# Altium footprint library Electro_Mechanical.PcbLib: 27 footprints (part 1 of 2)
Each footprint in its own frame and in the unit in brackets; x right, y up, seen from the top. Pads: shape width x height; smd on the part's side, far side on the other; paste and mask are expansions set on the pad; w line width, h text height; cw(c..) or ccw(c..) is an arc to the next point about the centre after c.
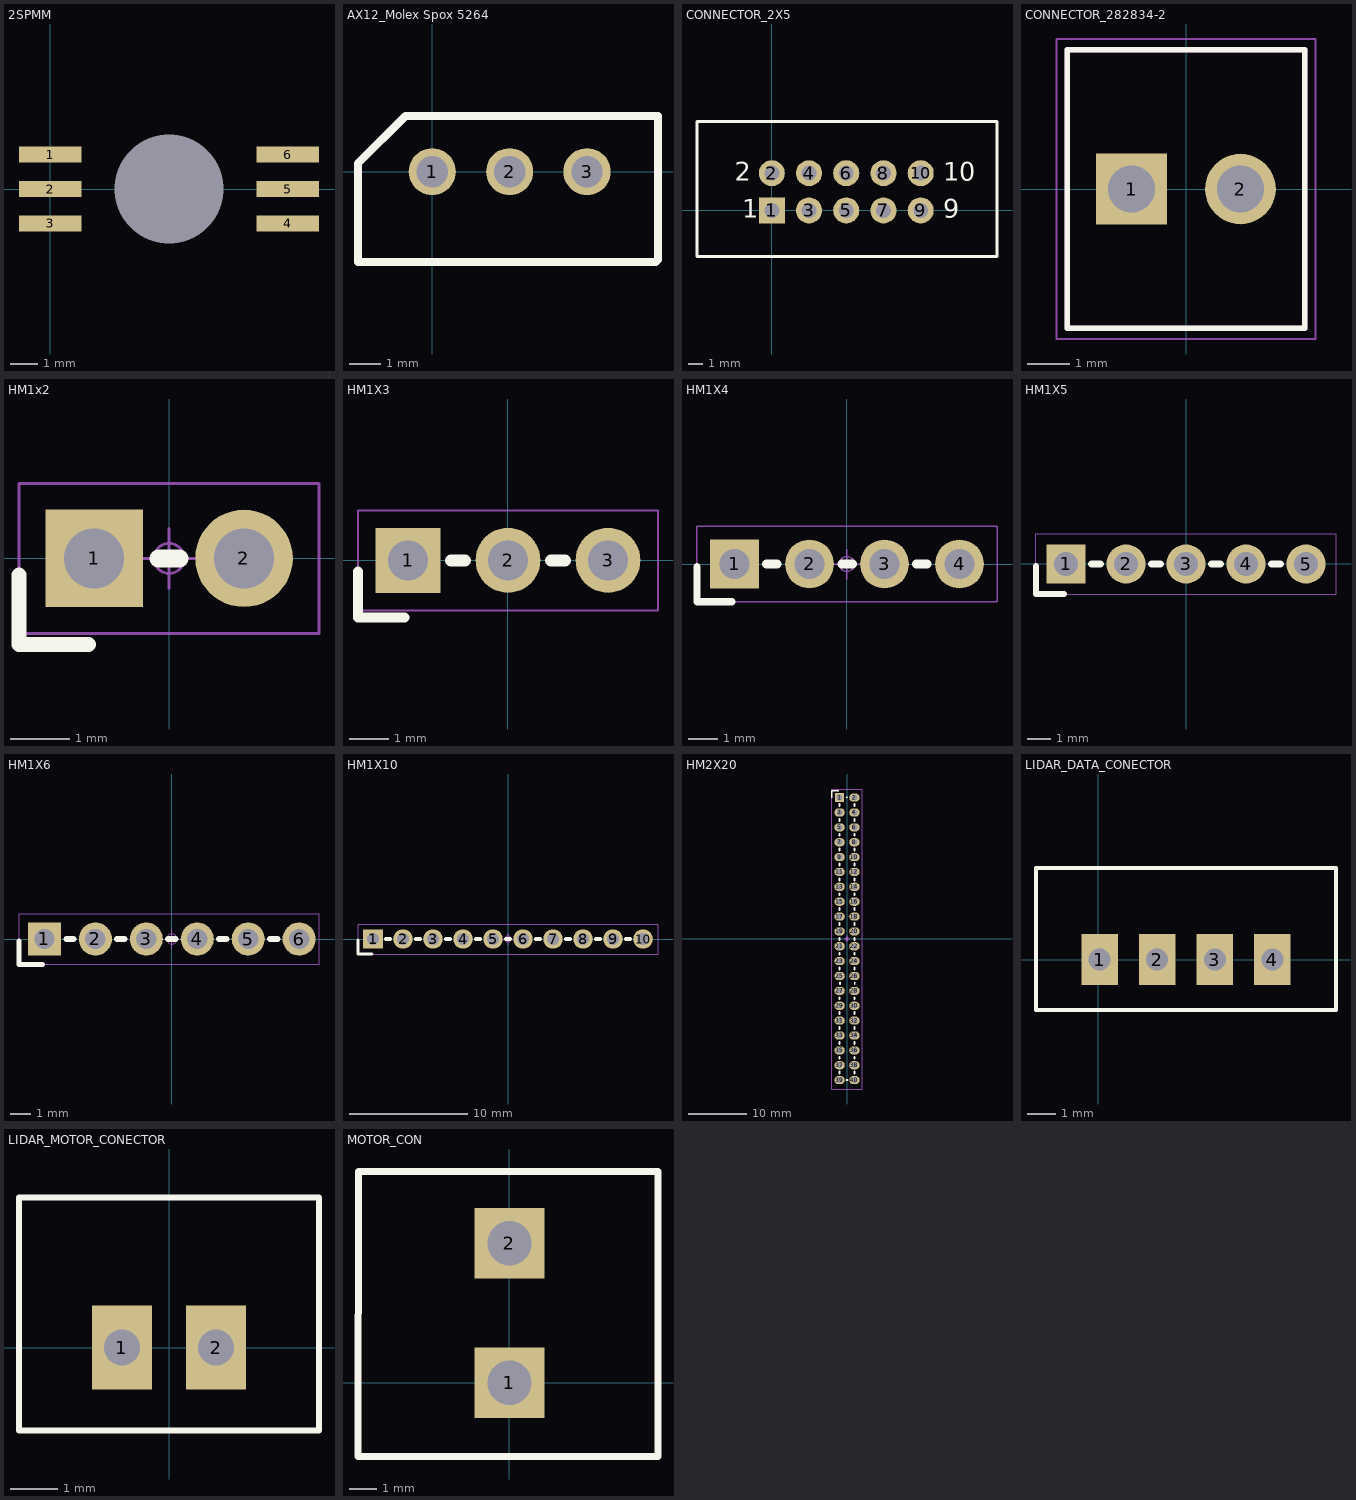
[diagram p0: the footprints below, top view; thin cyan lines are the x and y axes]

## 2SPMM [mm]
pads (7):
  rect 2.3x0.6 smd: 1(0,1.27) 2(0,0) 3(0,-1.27) 4(8.75,-1.27) 5(8.75,0) 6(8.75,1.27)
  round 0 hole 4: ""(4.375,0)
3D body "sensor_2smpp-02.stp": height 2.11, standoff -6.14, extent -0.55,-2.375 9.3,2.375

## AX12_Molex Spox 5264 [mil] "2.50 mm"
pads (3):
  round 60 hole 40: 1(0,0) 2(98.43,0) 3(196.85,0)
Top Overlay:
  lines w10: -94.49,-115 284.27,-115 287.13,-112.13 287.13,70.87 -21.65,70.87 -34.13,70.87 -94.49,10.51 -94.49,-115
3D body "User Library-Molex_22-03-5035.step": height 236.14, standoff -133.94, extent -96.88,-122.24 292.88,70.67

## CONNECTOR_2X5 [mil] "Connector; 5x2 Position"
pads (10):
  rect 70x70 hole 40: 1(0,0)
  round 70 hole 40: 2(0,100) 3(100,0) 4(100,100) 5(200,0) 6(200,100) 7(300,0) 8(300,100) 9(400,0) 10(400,100)
Top Overlay:
  lines w7.87: -201,-124 605,-124 605,239 -201,239 -201,-124
  text "10" at 460,80 h50
  text "9" at 460,-20 h50
  text "1" at -80,-20 h50
  text "2" at -100,80 h50
3D body "User Library-LP10V.STEP": height 372.44, standoff -125.98, extent -200,-125.19 600,237.01

## CONNECTOR_282834-2 [mm] "Low Power MOSFET"
pads (2):
  rect 1.65x1.65 hole 1.1: 1(-1.27,0)
  round 1.65 hole 1.1: 2(1.27,0)
Top Overlay:
  lines w0.127: -2.77,-3.25 2.77,-3.25 2.77,3.25 -2.77,3.25 -2.77,-3.25
Mechanical 4:
  lines w0.127: -2.77,-3.25 2.77,-3.25 ; -2.77,-3.25 -2.77,3.25 ; -2.77,-3.25 2.77,-3.25 ; -2.77,-3.25 -2.77,3.25 ; -2.77,3.25 2.77,3.25 ; -2.77,3.25 2.77,3.25 ; 2.77,-3.25 2.77,3.25 ; 2.77,-3.25 2.77,3.25
Mechanical 16:
  lines w0.05: -3.02,-3.5 3.02,-3.5 3.02,3.5 -3.02,3.5 -3.02,-3.5
3D body "c-282834-2-c-3d.stp": height 10.01, standoff -3.39, extent -2.77,-3.251 2.77,3.249

## HM1x2 [mil] "Single row pin header 1x2, 2.54mm"
pads (2):
  rect 65x65 hole 40: 1(-50,0)
  round 65 hole 40: 2(50,0)
Top Overlay:
  lines w10: -100,-11.02 -100,-57.48 -53.54,-57.48
  lines w12: -7,0 7,0
Mechanical 15:
  circle w2: c0,0 r10
  lines w2: -20,0 20,0 ; 0,-20 0,20 ; -100,-50 -100,50 100,50 100,-50 -100,-50
3D body "User Library-Pin Header Strip 1x2.step": height 335, standoff -145, extent -100,-57.48 100,57.48

## HM1X3 [mil] "Contact Mating Length-6.00mm"
height 336.22
pads (3):
  rect 65x65 hole 40: 1(-100,0)
  round 65 hole 40: 2(0,0) 3(100,0)
Top Overlay:
  lines w10: -150,-11.02 -150,-57.48 -103.54,-57.48
  lines w12: -57,0 -43,0 ; 43,0 57,0
Mechanical 15:
  circle w2: c0,0 r10
  lines w2: -20,0 20,0 ; 0,-20 0,20 ; -150,-50 150,-50 150,50 -150,50 -150,-50
3D body "User Library-Pin Header Strip 1x3.step": height 335, standoff -145, extent -150,-57.48 150,57.48

## HM1X4 [mil] "Contact Mating Length-6.00mm"
height 336.22
pads (4):
  rect 65x65 hole 40: 1(-150,0)
  round 65 hole 40: 2(-50,0) 3(50,0) 4(150,0)
Top Overlay:
  lines w10: -200,-3.54 -200,-50 -153.54,-50
  lines w12: -107,0 -93,0 ; -7,0 7,0 ; 93,0 107,0
Mechanical 15:
  circle w2: c0,0 r10
  lines w2: -20,0 20,0 ; 0,-20 0,20 ; -200,-50 200,-50 200,50 -200,50 -200,-50
3D body "61300411121.stp": height 336.22, standoff -118.11, extent -199.99,-50 200.01,50

## HM1X5 [mil] "Contact Mating Length-6.00mm"
height 336.22
pads (5):
  rect 65x65 hole 40: 1(-200,0)
  round 65 hole 40: 2(-100,0) 3(0,0) 4(100,0) 5(200,0)
Top Overlay:
  lines w10: -250,-3.54 -250,-50 -203.54,-50
  lines w12: -157,0 -143,0 ; -57,0 -43,0 ; 43,0 57,0 ; 143,0 157,0
Mechanical 15:
  lines w2: -250,-50 250,-50 250,50 -250,50 -250,-50
3D body "User Library-Pin Header Strip 1x2.step": height 335, standoff -145, extent 50,-57.48 250,57.48
3D body "User Library-Pin Header Strip 1x3.step": height 335, standoff -145, extent -250,-57.48 50,57.48

## HM1X6 [mil] "Contact Mating Length-6.00mm"
height 336.22
pads (6):
  rect 65x65 hole 40: 1(-250,0)
  round 65 hole 40: 2(-150,0) 3(-50,0) 4(50,0) 5(150,0) 6(250,0)
Top Overlay:
  lines w10: -300,-3.54 -300,-50 -253.54,-50
  lines w12: -207,0 -193,0 ; -107,0 -93,0 ; -7,0 7,0 ; 93,0 107,0 ; 193,0 207,0
Mechanical 15:
  circle w2: c0,0 r10
  lines w2: -20,0 20,0 ; 0,-20 0,20 ; -300,-50 289,-50 289,50 -300,50 -300,-50
3D body "User Library-Pin Header Strip 1x3.step": height 335, standoff -145, extent -300,-57.48 0,57.48
3D body "User Library-Pin Header Strip 1x3.step": height 335, standoff -145, extent 0,-57.48 300,57.48

## HM1X10 [mil]
pads (10):
  rect 65x65 hole 40: 1(-450,0)
  round 65 hole 40: 2(-350,0) 3(-250,0) 4(-150,0) 5(-50,0) 6(50,0) 7(150,0) 8(250,0) 9(350,0) 10(450,0)
Top Overlay:
  lines w10: -499.99,-3.54 -499.99,-49.99 -453.54,-49.99
  lines w12: -407,0 -393,0 ; -307,0 -293,0 ; -207,0 -193,0 ; -107,0 -93,0 ; -7,0 7,0 ; 93,0 107,0 ; 193,0 207,0 ; 293,0 307,0 ; 393,0 407,0
Mechanical 15:
  circle w2: c0,0 r10
  lines w2: -20,0 20,0 ; 0,-20 0,20 ; -500,-50 500,-50 500,50 -500,50 -500,-50
3D body "STEP-61301011121-rev1.stp": height 336.22, standoff -118.11, extent -499.99,-49.99 500.01,50.01

## HM2X20 [mil] "Double row pin header 2x20, 2.54mm"
height 336.22
pads (40):
  rect 59.06x59.06 hole 40: 1(-50,950)
  oval 70x55 hole 40: 2(50,950) 3(-50,850) 4(50,850) 5(-50,750) 6(50,750) 7(-50,650) 8(50,650) 9(-50,550) 10(50,550) 11(-50,450) 12(50,450) 13(-50,350) 14(50,350) 15(-50,250) 16(50,250) 17(-50,150) 18(50,150) 19(-50,50) 20(50,50) 21(-50,-50) 22(50,-50) 23(-50,-150) 24(50,-150) 25(-50,-250) 26(50,-250) 27(-50,-350) 28(50,-350) 29(-50,-450) 30(50,-450) 31(-50,-550) 32(50,-550) 33(-50,-650) 34(50,-650) 35(-50,-750) 36(50,-750) 37(-50,-850) 38(50,-850) 39(-50,-950) 40(50,-950)
Top Overlay:
  lines w10: -101.18,950 -101.18,996.46 -54.72,996.46
  lines w12: -50,-907 -50,-893 ; -50,-807 -50,-793 ; -50,-707 -50,-693 ; -50,-607 -50,-593 ; -50,-507 -50,-493 ; -50,-407 -50,-393 ; -50,-207 -50,-193 ; -50,-107 -50,-93 ; -50,-7 -50,7 ; -50,93 -50,107 ; -50,193 -50,207 ; -50,293 -50,307 ; -50,393 -50,407 ; -50,493 -50,507 ; -50,593 -50,607 ; -50,693 -50,707 ; -50,793 -50,807 ; -50,893 -50,907 ; -48,-306 -48,-292 ; -5,953 1,953 ; -3,-949 3,-949 ; 50,-907 50,-893 ; 50,-807 50,-793 ; 50,-707 50,-693 ; 50,-607 50,-593 ; 50,-507 50,-493 ; 50,-407 50,-393 ; 50,-207 50,-193 ; 50,-107 50,-93 ; 50,-7 50,7 ; 50,93 50,107 ; 50,193 50,207 ; 50,293 50,307 ; 50,393 50,407 ; 50,493 50,507 ; 50,593 50,607 ; 50,693 50,707 ; 50,793 50,807 ; 50,893 50,907 ; 52,-306 52,-292
Mechanical 15:
  circle w2: c0,0 r10
  lines w2: -20,0 20,0 ; 0,-20 0,20 ; -101.18,-1010 -101.18,1008 101.18,1008 101.18,-1010 -101.18,-1010
3D body "User Library-PLD-26.step": height 330.71, standoff -118.11, extent -100,-1000 96.85,300
3D body "User Library-PLD-26.step": height 330.71, standoff -118.11, extent -100.43,-301 96.43,999

## LIDAR_DATA_CONECTOR [mil] "Male Vertical Shrouded Header - 04p 1 row"
height 240.16
pads (4):
  rect 50x70 hole 30: 1(1.89,0) 2(80.63,0) 3(159.37,0) 4(238.11,0)
Top Overlay:
  lines w5: -85,-68.9 -85,125 325,125 325,-68.9 -85,-68.9
3D body "62000411622.stp": height 239.17, standoff -132.69, extent -76.85,-63.97 316.85,119.1

## LIDAR_MOTOR_CONECTOR [mil] "Male Vertical Shrouded Header - 02p 1 row"
height 240.16
pads (2):
  rect 50x70 hole 30: 1(-39.37,0) 2(39.37,0)
Top Overlay:
  lines w5: -125,-68.9 125,-68.9 125,125 -125,125 -125,-68.9
3D body "62000211622.stp": height 239.17, standoff -132.69, extent -118.1,-63.97 118.12,119.1

## MOTOR_CON [mm]
pads (2):
  rect 2.54x2.54 hole 1.6: 1(0,0) 2(0,5.029)
Top Overlay:
  lines w0.25: -5.466,-2.667 5.359,-2.667 5.359,7.62
  lines w0.254: -5.466,-2.667 -5.456,7.62 5.359,7.62
3D body "User Library-xy128v.step": height 14, standoff -3, extent -5.22,-2.54 5.08,7.46

## PCBComponent_1 [mil]

## PCBComponent_1 - duplicate [mil]